# Altium schematic symbol library LT1962.SchLib: 1 symbol
Pins are listed as number, name and electrical type; pins without a type are passive.

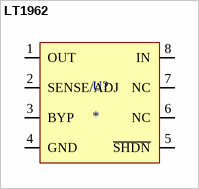
[diagram p0: symbol LT1962]

## LT1962
designator U?
LT1962 - 300mA, Low Noise, Micropower LDO Regulators; Vendor: Linear Technology; Manufacturer: Linear Technology; Part No.: LT1962; Price Est.: $2.00
footprint MSOP-8 (MS8) (MS8 MSOP-8 Linear Technology 8-Lead PLASTIC MSOP)
pins: 1 OUT, 2 SENSE/ADJ, 3 BYP, 4 GND, 5 ~{SHDN}, 6 NC, 7 NC, 8 IN